# Altium schematic symbol library W25Q64JV FLASH.SchLib: 1 symbol
Pins are listed as number, name and electrical type; pins without a type are passive.

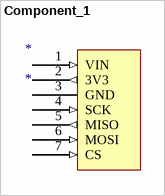
[diagram p0: symbol Component_1]

## Component_1
designator *
pins: 1 VIN (in), 2 3V3 (out), 3 GND (power), 4 SCK (in), 5 MISO (out), 6 MOSI (in), 7 CS (in)